# Altium schematic symbol library SnapEDAsch.SchLib: 1 symbol
Pins are listed as number, name and electrical type; pins without a type are passive.

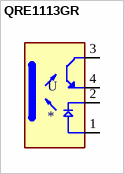
[diagram p0: symbol QRE1113GR]

## QRE1113GR
designator U
Reflective Optical Sensor 0.197 _5mm_ 4-SMD, Gull Wing; MP: QRE1113GR; MF: ON Semiconductor; Availability: Unavailable; Package: SMD-4 ON Semiconductor; SnapEDA_Link: https://www.snapeda.com/parts/QRE1113GR/ON%20Semiconductor/view-part/1665429/?ref=snap; Price: None; Value: *
footprint SOIC180P460X187-4N
pins: 1 A, 2 C, 3 CT, 4 ET